# Altium footprint library ErkitPackage.PcbLib: 46 footprints (part 3 of 3)
Each footprint in its own frame and in the unit in brackets; x right, y up, seen from the top. Pads: shape width x height; smd on the part's side, far side on the other; paste and mask are expansions set on the pad; w line width, h text height; cw(c..) or ccw(c..) is an arc to the next point about the centre after c.
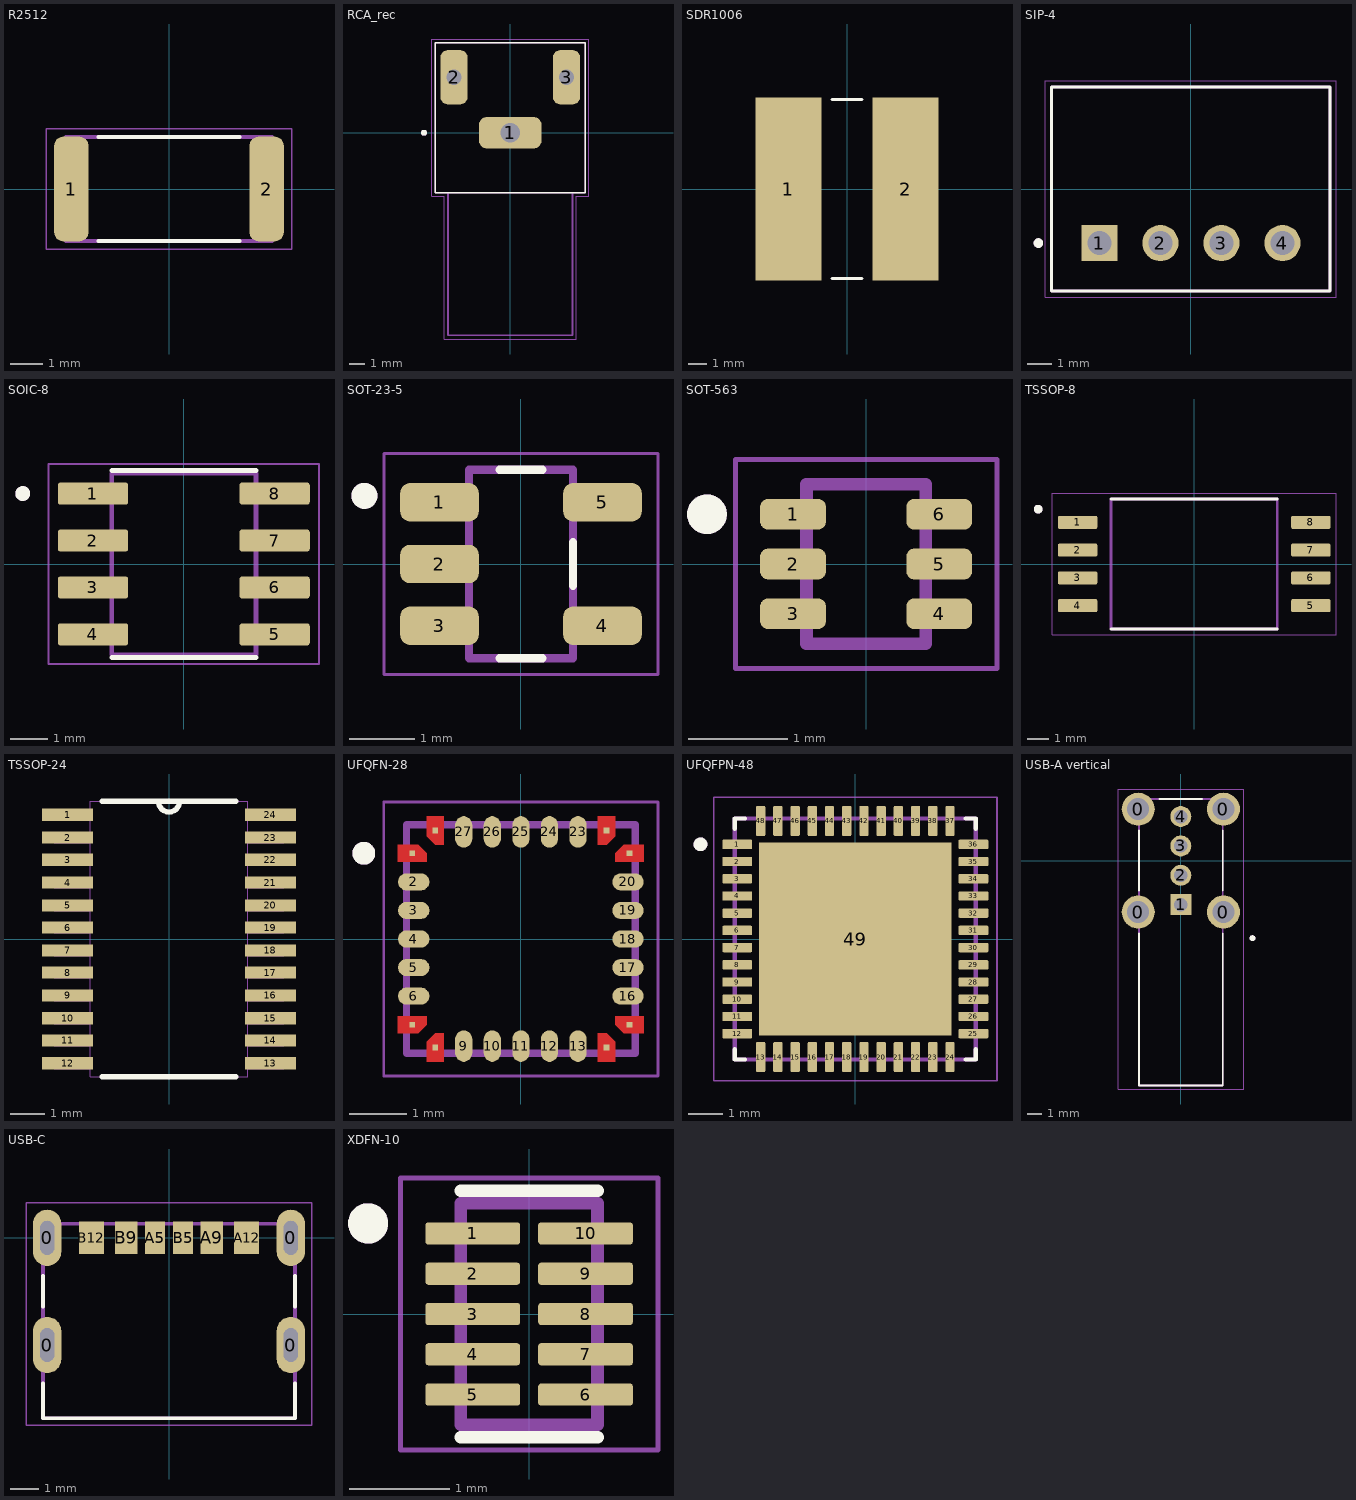
[diagram p2: the footprints below, top view; thin cyan lines are the x and y axes]

## R2512 [mm]
pads (2):
  rrect50% 1.07x3.27 smd: 1(-3.055,0) 2(3.055,0)
Top Overlay:
  lines w0.127: -2.2,-1.63 2.2,-1.63 ; -2.2,1.63 2.2,1.63
Mechanical 13:
  lines w0.127: -3.22,-1.63 -3.22,1.63 3.22,1.63 3.22,-1.63 -3.22,-1.63
Mechanical 15:
  lines w0.05: -3.84,-1.885 -3.84,1.885 3.84,1.885 3.84,-1.885 -3.84,-1.885
3D body "User Library-R_2512.step": height 0.6, standoff 0, extent -3.2,-1.6 3.2,1.6

## RCA_rec [mm]
pads (3):
  rrect50% 4.2x2.1 / inner oval 4.2x2.1 / far side rrect50% 4.2x2.1 hole 1.3 square: 1(0,0)
  rrect50% 1.8x3.6 / inner oval 1.8x3.6 / far side rrect50% 1.8x3.6 hole 1 square: 2(-3.75,3.7) 3(3.75,3.7)
Top Overlay:
  circle w0.2: c-5.75,0 r0.1
  lines w0.127: -5,-4 -5,6 5,6 5,-4 -5,-4
Mechanical 13:
  circle w0.2: c-5.75,0 r0.1
  lines w0.127: -4.15,-4 -5,-4 -5,6 5,6 5,-4 4.15,-4 ; -4.15,-4 4.15,-4 ; -4.15,-4 -4.15,-13.5 4.15,-13.5 4.15,-4
Mechanical 15:
  lines w0.05: -5.25,-4.25 -5.25,6.25 5.25,6.25 5.25,-4.25 4.4,-4.25 4.4,-13.75 -4.4,-13.75 -4.4,-4.25 -5.25,-4.25
3D body "PJRAN1X1U04X--3DModel-STEP-56544.STEP": height 13, standoff -4.01, extent -5.004,-13.513 5.004,5.994

## SDR1006 [mm]
pads (2):
  rect 3.6x10 smd: 1(-3.2,0) 2(3.2,0)
Top Overlay:
  lines w0.152: -0.813,-4.897 0.813,-4.897 ; -0.813,4.897 0.813,4.897
3D body "sdr1006-390kl.stp": height 5.8, standoff 0, extent -4.9,-4.9 4.9,4.9

## SIP-4 [mm]
pads (4):
  rect 1.508x1.508 hole 1: 1(-3.81,-2.25)
  round 1.508 hole 1: 2(-1.27,-2.25) 3(1.27,-2.25) 4(3.81,-2.25)
Top Overlay:
  circle w0.2: c-6.35,-2.25 r0.1
  lines w0.127: -5.81,-4.25 -5.81,4.25 5.79,4.25 5.79,-4.25 -5.81,-4.25
Mechanical 13:
  circle w0.2: c-6.35,-2.25 r0.1
  lines w0.127: -5.81,-4.25 -5.81,4.25 5.79,4.25 5.79,-4.25 -5.81,-4.25
Mechanical 15:
  lines w0.05: -6.06,-4.5 -6.06,4.5 6.04,4.5 6.04,-4.5 -6.06,-4.5
3D body "R-78S3.6-0.1--3DModel-STEP-1.STEP": height 9.9, standoff -4.6, extent -5.8,-4.25 5.8,4.25

## SOIC-8 [mm]
pads (8):
  rrect25% 1.9x0.6 smd: 1(-2.455,1.905) 2(-2.455,0.635) 3(-2.455,-0.635) 4(-2.455,-1.905) 5(2.455,-1.905) 6(2.455,-0.635) 7(2.455,0.635) 8(2.455,1.905)
Top Overlay:
  circle w0.2: c-4.355,1.905 r0.1
  lines w0.127: -1.95,-2.525 1.95,-2.525 ; -1.95,2.525 1.95,2.525
Mechanical 13:
  circle w0.2: c-4.355,1.905 r0.1
  lines w0.127: -1.95,-2.45 1.95,-2.45 1.95,2.45 -1.95,2.45 -1.95,-2.45
Mechanical 15:
  lines w0.05: -3.655,-2.7 3.655,-2.7 3.655,2.7 -3.655,2.7 -3.655,-2.7
3D body "step_temp.STEP": height 1.75, standoff 0, extent -3,-2.45 3,2.45

## SOT-23-5 [mm]
pads (5):
  rrect50% 1.21x0.59 smd: 1(-1.255,0.95) 2(-1.255,0) 3(-1.255,-0.95) 4(1.255,-0.95) 5(1.255,0.95)
Top Overlay:
  circle w0.2: c-2.41,1.05 r0.1
  lines w0.127: -0.33,-1.45 0.33,-1.45 ; -0.33,1.45 0.33,1.45 ; 0.8,-0.335 0.8,0.335
Mechanical 13:
  circle w0.2: c-2.41,1.05 r0.1
  lines w0.127: -0.8,-1.45 0.8,-1.45 0.8,1.45 -0.8,1.45 -0.8,-1.45
Mechanical 15:
  lines w0.05: -2.11,-1.7 -2.11,1.7 2.11,1.7 2.11,-1.7 -2.11,-1.7
3D body "step_temp.STEP": height 1.45, standoff 0, extent -1.4,-1.45 1.4,1.45

## SOT-563 [mm]
pads (6):
  rrect50% 0.66x0.31 smd: 1(-0.735,0.5) 2(-0.735,0) 3(-0.735,-0.5) 4(0.735,-0.5) 5(0.735,0) 6(0.735,0.5)
Top Overlay:
  circle w0.2: c-1.6,0.5 r0.1
Mechanical 13:
  circle w0.2: c-1.6,0.5 r0.1
  lines w0.127: -0.6,-0.8 0.6,-0.8 0.6,0.8 -0.6,0.8 -0.6,-0.8
Mechanical 15:
  lines w0.05: -1.315,-1.05 -1.315,1.05 1.315,1.05 1.315,-1.05 -1.315,-1.05
3D body "step_temp.STEP": height 0.6, standoff 0, extent -0.8,-0.8 0.8,0.8

## TSSOP-8 [mm]
pads (8):
  rrect25% 1.8x0.6 smd: 1(-5.33,1.905) 2(-5.33,0.635) 3(-5.33,-0.635) 4(-5.33,-1.905) 5(5.33,-1.905) 6(5.33,-0.635) 7(5.33,0.635) 8(5.33,1.905)
Top Overlay:
  circle w0.2: c-7.13,2.505 r0.1
  lines w0.127: -3.8,-2.975 3.8,-2.975 ; -3.8,2.975 3.8,2.975
Mechanical 13:
  circle w0.2: c-7.13,2.505 r0.1
  lines w0.127: -3.8,-2.975 -3.8,2.975 3.8,2.975 3.8,-2.975 -3.8,-2.975
Mechanical 15:
  lines w0.05: -6.48,-3.225 -6.48,3.225 6.48,3.225 6.48,-3.225 -6.48,-3.225
3D body "step_temp.STEP": height 2.8, standoff 0, extent -5.75,-2.925 5.75,2.925

## TSSOP-24 [mil]
pads (24):
  rect 58x14 smd: 1(-115,141) 2(-115,115) 3(-115,90) 4(-115,64) 5(-115,38) 6(-115,13) 7(-115,-13) 8(-115,-38) 9(-115,-64) 10(-115,-90) 11(-115,-115) 12(-115,-141) 13(115,-141) 14(115,-115) 15(115,-90) 16(115,-64) 17(115,-38) 18(115,-13) 19(115,13) 20(115,38) 21(115,64) 22(115,90) 23(115,115) 24(115,141)
Top Overlay:
  lines w6: -76,-156 76,-156 ; -76,156 -12,156 ; 76,156 12,156 ; -12,156 ccw(c0,156) 12,156 ; -12,156 12,156
Mechanical 13:
  lines w0: -12,156 ccw(c0,156) 12,156 ; -12,156 -89,156 -89,-156 89,-156 89,156 12,156 ; -12,156 12,156 ; -130,-147 -89,-147 -89,-135 -130,-135 -130,-147 ; -130,-121 -89,-121 -89,-109 -130,-109 -130,-121 ; -130,-96 -89,-96 -89,-84 -130,-84 -130,-96 ; -130,-70 -89,-70 -89,-58 -130,-58 -130,-70 ; -130,-44 -89,-44 -89,-32 -130,-32 -130,-44 ; -130,-19 -89,-19 -89,-7 -130,-7 -130,-19 ; -130,7 -89,7 -89,19 -130,19 -130,7 ; -130,32 -89,32 -89,44 -130,44 -130,32 ; -130,58 -89,58 -89,70 -130,70 -130,58 ; -130,84 -89,84 -89,96 -130,96 -130,84 ; -130,109 -89,109 -89,121 -130,121 -130,109 ; -130,135 -89,135 -89,147 -130,147 -130,135 ; 89,-147 130,-147 130,-135 89,-135 89,-147 ; 89,-121 130,-121 130,-109 89,-109 89,-121 ; 89,-96 130,-96 130,-84 89,-84 89,-96 ; 89,-70 130,-70 130,-58 89,-58 89,-70 ; 89,-44 130,-44 130,-32 89,-32 89,-44 ; 89,-19 130,-19 130,-7 89,-7 89,-19 ; 89,7 130,7 130,19 89,19 89,7 ; 89,32 130,32 130,44 89,44 89,32 ; 89,58 130,58 130,70 89,70 89,58 ; 89,84 130,84 130,96 89,96 89,84 ; 89,109 130,109 130,121 89,121 89,109 ; 89,135 130,135 130,147 89,147 89,135
3D body "step_temp.STEP": height 43.31, standoff 0, extent -125.98,-153.54 125.98,153.54

## UFQFN-28 [mm]
pads (28):
  rect 0.1x0.1 smd paste-1 mask+0: 1(-1.9,1.5) 7(-1.9,-1.5) 8(-1.5,-1.9) 14(1.5,-1.9) 15(1.9,-1.5) 21(1.9,1.5) 22(1.5,1.9) 28(-1.5,1.9)
  oval 0.55x0.3 smd mask+0.076: 2(-1.875,1) 3(-1.875,0.5) 4(-1.875,0) 5(-1.875,-0.5) 6(-1.875,-1) 16(1.875,-1) 17(1.875,-0.5) 18(1.875,0) 19(1.875,0.5) 20(1.875,1)
  oval 0.3x0.55 smd mask+0.076: 9(-1,-1.875) 10(-0.5,-1.875) 11(0,-1.875) 12(0.5,-1.875) 13(1,-1.875) 23(1,1.875) 24(0.5,1.875) 25(0,1.875) 26(-0.5,1.875) 27(-1,1.875)
Top Layer:
  region: -1.65,1.5 -1.65,1.35 -2.15,1.35 -2.15,1.65 -1.8,1.65
  region: -1.65,-1.5 -1.8,-1.65 -2.15,-1.65 -2.15,-1.35 -1.65,-1.35
  region: -1.35,-2.15 -1.65,-2.15 -1.65,-1.8 -1.5,-1.65 -1.35,-1.65
  region: 1.65,-1.8 1.65,-2.15 1.35,-2.15 1.35,-1.65 1.5,-1.65
  region: 2.15,-1.65 1.8,-1.65 1.65,-1.5 1.65,-1.35 2.15,-1.35
  region: -1.35,1.65 -1.5,1.65 -1.65,1.8 -1.65,2.15 -1.35,2.15
  region: 2.15,1.35 1.65,1.35 1.65,1.5 1.8,1.65 2.15,1.65
  region: 1.65,1.8 1.5,1.65 1.35,1.65 1.35,2.15 1.65,2.15
Top Overlay:
  circle w0.2: c-2.75,1.5 r0.1
Top Paste:
  region: -1.65,1.5 -1.65,1.35 -2.15,1.35 -2.15,1.65 -1.8,1.65
  region: -1.65,-1.5 -1.8,-1.65 -2.15,-1.65 -2.15,-1.35 -1.65,-1.35
  region: -1.35,-2.15 -1.65,-2.15 -1.65,-1.8 -1.5,-1.65 -1.35,-1.65
  region: 1.65,-1.8 1.65,-2.15 1.35,-2.15 1.35,-1.65 1.5,-1.65
  region: 2.15,-1.65 1.8,-1.65 1.65,-1.5 1.65,-1.35 2.15,-1.35
  region: -1.35,1.65 -1.5,1.65 -1.65,1.8 -1.65,2.15 -1.35,2.15
  region: 2.15,1.35 1.65,1.35 1.65,1.5 1.8,1.65 2.15,1.65
  region: 1.65,1.8 1.5,1.65 1.35,1.65 1.35,2.15 1.65,2.15
Top Solder:
  region: -1.55,1.5 -1.55,1.25 -2.25,1.25 -2.25,1.75 -1.8,1.75
  region: -1.55,-1.5 -1.8,-1.75 -2.25,-1.75 -2.25,-1.25 -1.55,-1.25
  region: -1.25,-2.25 -1.75,-2.25 -1.75,-1.8 -1.5,-1.55 -1.25,-1.55
  region: 2.25,-1.75 1.8,-1.75 1.55,-1.5 1.55,-1.25 2.25,-1.25
  region: -1.25,1.55 -1.5,1.55 -1.75,1.8 -1.75,2.25 -1.25,2.25
  region: 1.75,-1.8 1.75,-2.25 1.25,-2.25 1.25,-1.55 1.5,-1.55
  region: 2.25,1.25 1.55,1.25 1.55,1.5 1.8,1.75 2.25,1.75
  region: 1.75,1.8 1.5,1.55 1.25,1.55 1.25,2.25 1.75,2.25
Mechanical 13:
  circle w0.2: c-2.75,1.5 r0.1
  lines w0.127: -2,-2 2,-2 2,2 -2,2 -2,-2
Mechanical 15:
  lines w0.05: -2.4,-2.4 2.4,-2.4 2.4,2.4 -2.4,2.4 -2.4,-2.4
3D body "step_temp.STEP": height 0.6, standoff 0, extent -2,-2 2,2

## UFQFPN-48 [mm]
pads (49):
  rrect25% 0.87x0.27 smd: 1(-3.43,2.75) 2(-3.43,2.25) 3(-3.43,1.75) 4(-3.43,1.25) 5(-3.43,0.75) 6(-3.43,0.25) 7(-3.43,-0.25) 8(-3.43,-0.75) 9(-3.43,-1.25) 10(-3.43,-1.75) 11(-3.43,-2.25) 12(-3.43,-2.75) 25(3.43,-2.75) 26(3.43,-2.25) 27(3.43,-1.75) 28(3.43,-1.25) 29(3.43,-0.75) 30(3.43,-0.25) 31(3.43,0.25) 32(3.43,0.75) 33(3.43,1.25) 34(3.43,1.75) 35(3.43,2.25) 36(3.43,2.75)
  rrect25% 0.27x0.87 smd: 13(-2.75,-3.43) 14(-2.25,-3.43) 15(-1.75,-3.43) 16(-1.25,-3.43) 17(-0.75,-3.43) 18(-0.25,-3.43) 19(0.25,-3.43) 20(0.75,-3.43) 21(1.25,-3.43) 22(1.75,-3.43) 23(2.25,-3.43) 24(2.75,-3.43) 37(2.75,3.43) 38(2.25,3.43) 39(1.75,3.43) 40(1.25,3.43) 41(0.75,3.43) 42(0.25,3.43) 43(-0.25,3.43) 44(-0.75,3.43) 45(-1.25,3.43) 46(-1.75,3.43) 47(-2.25,3.43) 48(-2.75,3.43)
  rect 5.6x5.6 smd paste-4: 49(0,0)
Top Overlay:
  circle w0.2: c-4.5,2.75 r0.1
  lines w0.127: -3.5,-3.205 -3.5,-3.5 -3.205,-3.5 ; -3.5,3.205 -3.5,3.5 -3.205,3.5 ; 3.205,-3.5 3.5,-3.5 3.5,-3.205 ; 3.205,3.5 3.5,3.5 3.5,3.205
Top Paste:
  region: 2.29,-2.29 0.51,-2.29 0.51,-0.51 2.29,-0.51
  region: -0.51,-2.29 -2.29,-2.29 -2.29,-0.51 -0.51,-0.51
  region: 2.29,0.51 0.51,0.51 0.51,2.29 2.29,2.29
  region: -0.51,0.51 -2.29,0.51 -2.29,2.29 -0.51,2.29
Mechanical 13:
  circle w0.2: c-4.5,2.75 r0.1
  lines w0.127: -3.5,-3.5 -3.5,3.5 3.5,3.5 3.5,-3.5 -3.5,-3.5
Mechanical 15:
  lines w0.05: -4.115,-4.115 -4.115,4.115 4.115,4.115 4.115,-4.115 -4.115,-4.115
3D body "STM32F411CEU6--3DModel-STEP-56544.STEP": height 0.6, standoff 0, extent -3.5,-3.5 3.5,3.5

## USB-A vertical [mm]
pads (8):
  round 2.25 hole 1.5: 0(-2.9,-3.5) 0(-2.9,3.5) 0(2.9,-3.5) 0(2.9,3.5)
  rect 1.428x1.428 / inner round 1.428 / far side rect 1.428x1.428 hole 0.92: 1(0,-3)
  round 1.428 hole 0.92: 2(0,-1) 3(0,1) 4(0,3)
Top Overlay:
  circle w0.2: c4.88,-5.28 r0.1
  lines w0.127: -2.85,-4.945 -2.85,-15.3 2.85,-15.3 2.85,-4.945 ; -2.85,-2.055 -2.85,2.055 ; -1.455,4.2 1.455,4.2 ; 2.85,-2.055 2.85,2.055
Mechanical 13:
  circle w0.2: c4.88,-5.28 r0.1
  lines w0.127: -2.85,-15.3 2.85,-15.3 2.85,4.2 -2.85,4.2 -2.85,-15.3
Mechanical 15:
  lines w0.05: -4.275,-15.55 4.275,-15.55 4.275,4.875 -4.275,4.875 -4.275,-15.55
3D body "step_temp.STEP": height 17.65, standoff -1.4, extent -3.6,-15.09 3.595,4.11

## USB-C [mm]
pads (10):
  oval 1x2 hole 0.5 slot 1.2 at 90 deg: 0(-4.32,-3.8) 0(-4.32,0) 0(4.32,-3.8) 0(4.32,0)
  rect 0.7x1.15 smd: A5(-0.5,0.005) B5(0.5,0.005)
  rect 0.8x1.15 smd: A9(1.52,0.005) B9(-1.52,0.005)
  rect 0.9x1.15 smd: A12(2.75,0.005) B12(-2.75,0.005)
Top Overlay:
  lines w0.127: -4.47,-5.15 -4.47,-6.4 4.47,-6.4 4.47,-5.15 ; -4.47,-2.45 -4.47,-1.35 ; 4.47,-2.45 4.47,-1.35
Mechanical 13:
  lines w0.127: -4.47,-6.4 4.47,-6.4 4.47,0.5 -4.47,0.5 -4.47,-6.4
Mechanical 15:
  lines w0.05: -5.07,-6.65 5.07,-6.65 5.07,1.25 -5.07,1.25 -5.07,-6.65
3D body "step_temp.STEP": height 3.18, standoff -1.08, extent -4.47,-6.35 4.47,0.55

## XDFN-10 [mm]
pads (10):
  rrect25% 0.94x0.22 smd: 1(-0.56,0.8) 2(-0.56,0.4) 3(-0.56,0) 4(-0.56,-0.4) 5(-0.56,-0.8) 6(0.56,-0.8) 7(0.56,-0.4) 8(0.56,0) 9(0.56,0.4) 10(0.56,0.8)
Top Overlay:
  circle w0.2: c-1.6,0.9 r0.1
  lines w0.127: -0.68,-1.224 0.68,-1.224 ; -0.68,1.224 0.68,1.224
Mechanical 13:
  circle w0.2: c-1.6,0.9 r0.1
  lines w0.127: -0.68,-1.1 0.68,-1.1 0.68,1.1 -0.68,1.1 -0.68,-1.1
Mechanical 15:
  lines w0.05: -1.28,-1.35 -1.28,1.35 1.28,1.35 1.28,-1.35 -1.28,-1.35
3D body "EMI8142MUTAG--3DModel-STEP-510211.STEP": height 0.5, standoff 0, extent -0.675,-1.1 0.675,1.1